# Altium schematic symbol library LM4041-1.2.Schlib: 1 symbol
Pins are listed as number, name and electrical type; pins without a type are passive.

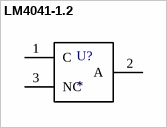
[diagram p0: symbol LM4041-1.2]

## LM4041-1.2
designator U?
Voltage Reference 2.495V 0.5% Adj. SOT23 | Diodes Inc TL431BSA-7
pins: 1 C, 2 A, 3 NC